# EAGLE library part MULTITECH_MDOT (library lora-lorawan-modules)
Multitech LoRaWAN module mDot Link: https://www.multitech.com/brands/multiconnect-mdot Link (dev): http://www.multitech.net/developer/products/multiconnect-dot-series/multiconnect-mdot/
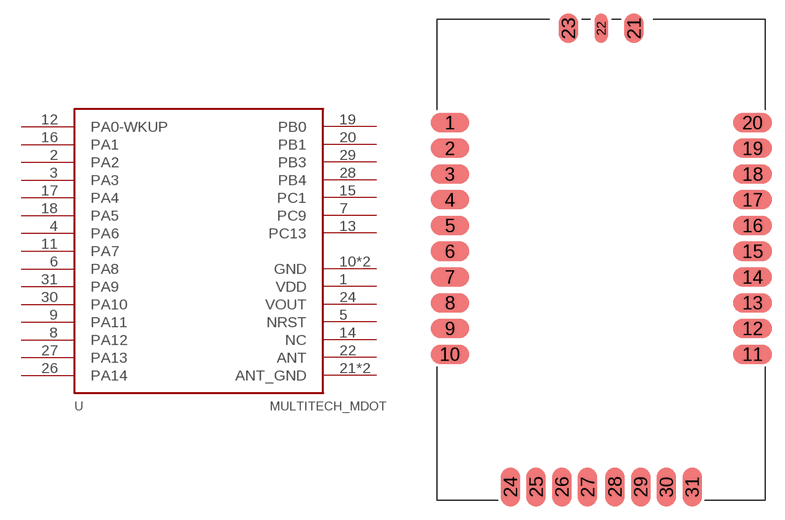
[diagram p4: symbol with the pads of MULTITECH_MDOT; footprint MULTITECH_MDOT]

Designator prefix -

## MULTITECH_MDOT  [MULTITECH_MDOT]
1  VDD  pwr
2  PA2
3  PA3
4  PA6
5  NRST
6  PA8
7  PC9
8  PA12
9  PA11
10  GND  pwr
11  PA7
12  PA0-WKUP
13  PC13
14  NC  nc
15  PC1
16  PA1
17  PA4
18  PA5
19  PB0
20  PB1
21  ANT_GND
22  ANT
23  ANT_GND
24  VOUT  out
25  GND  pwr
26  PA14
27  PA13
28  PB4
29  PB3
30  PA10
31  PA9

## Footprint MULTITECH_MDOT (pad centres in mm)
smd 3 x 1.5: 1 -11.76,4; 2 -11.76,2; 3 -11.76,0; 4 -11.76,-2; 5 -11.76,-4; 6 -11.76,-6; 7 -11.76,-8; 8 -11.76,-10; 9 -11.76,-12; 10 -11.76,-14; 11 11.76,-14; 12 11.76,-12; 13 11.76,-10; 14 11.76,-8; 15 11.76,-6; 16 11.76,-4; 17 11.76,-2; 18 11.76,0; 19 11.76,2; 20 11.76,4
smd 1.52 x 2.29: 21 2.55,11.33; 23 -2.55,11.33
smd 1.02 x 2.29: 22 0,11.33
smd 1.5 x 3: 24 -7.06,-24.32; 25 -5.06,-24.32; 26 -3.06,-24.32; 27 -1.06,-24.32; 28 1.06,-24.32; 29 3.06,-24.32; 30 5.06,-24.32; 31 7.06,-24.32